# Altium footprint library Face_PWR1V0.PcbLib: 20 footprints (part 1 of 2)
Each footprint in its own frame and in the unit in brackets; x right, y up, seen from the top. Pads: shape width x height; smd on the part's side, far side on the other; paste and mask are expansions set on the pad; w line width, h text height; cw(c..) or ccw(c..) is an arc to the next point about the centre after c.
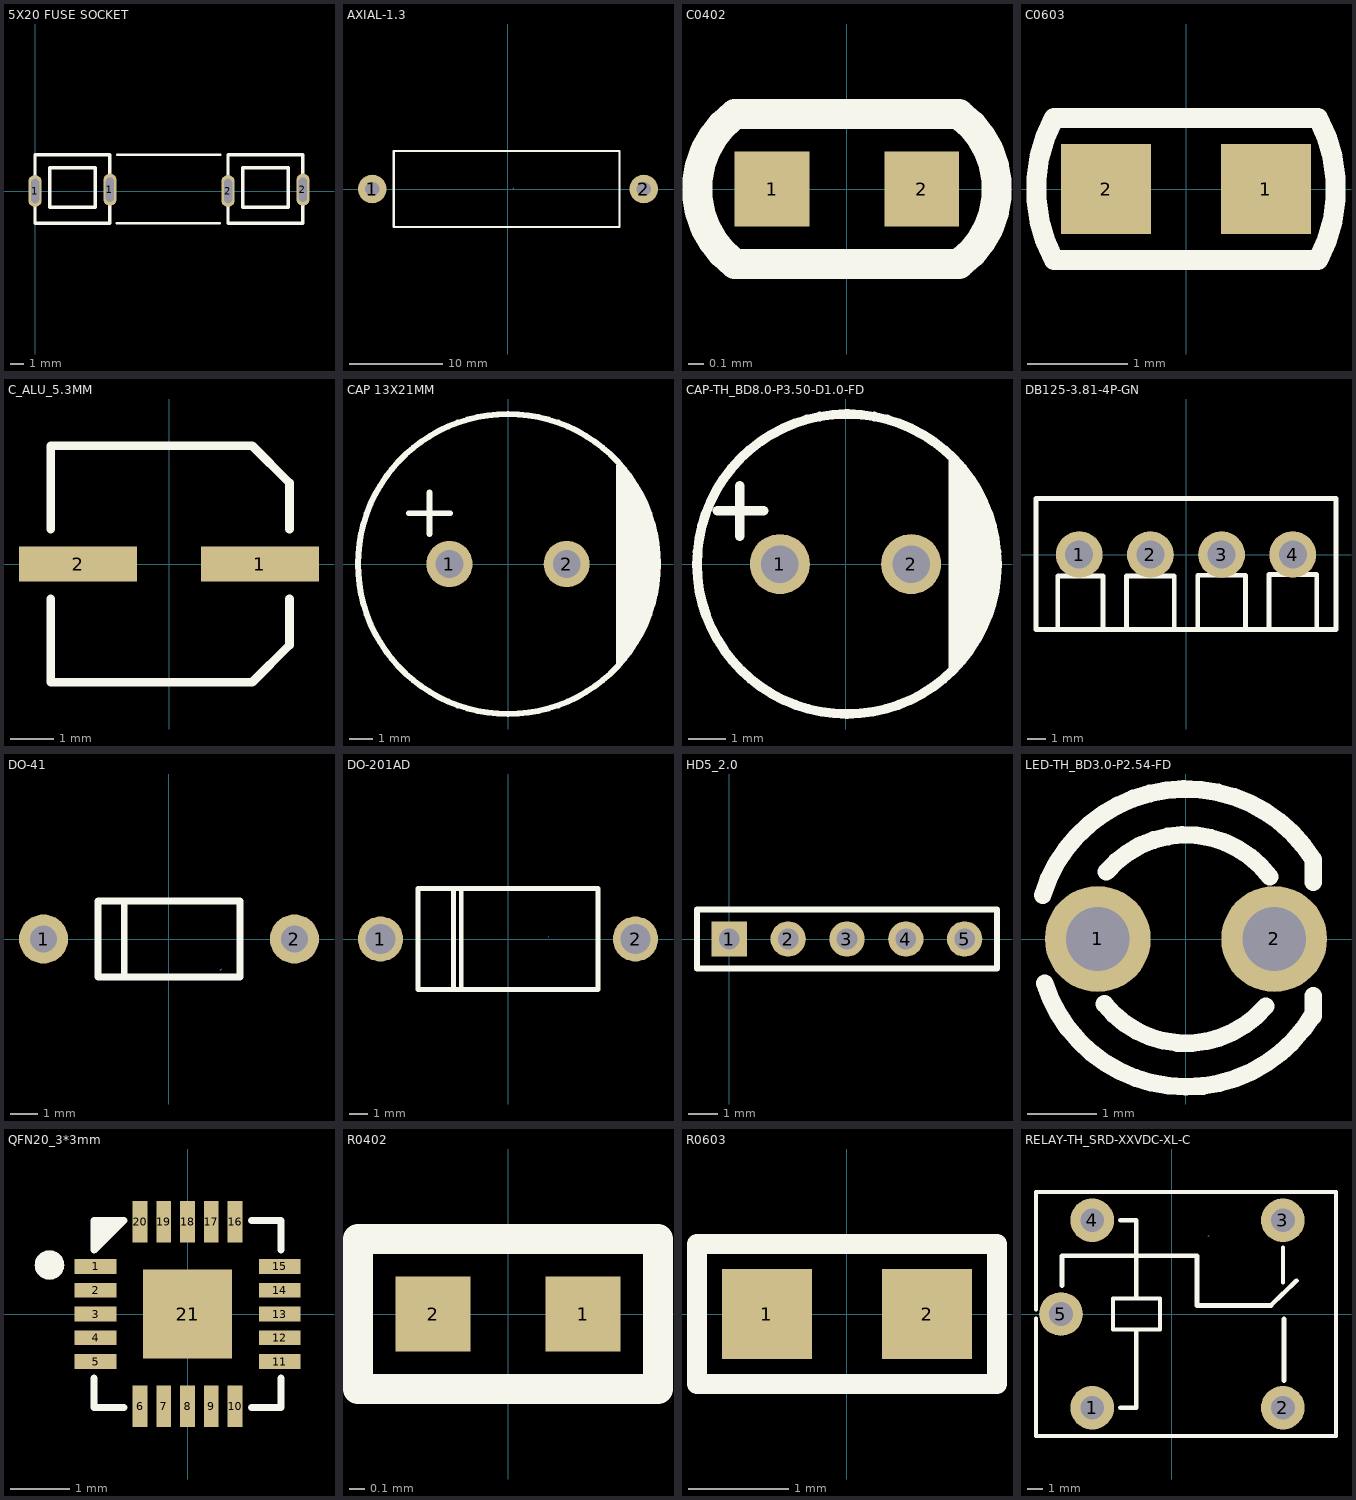
[diagram p0: the footprints below, top view; thin cyan lines are the x and y axes]

## 5X20 FUSE SOCKET [mm]
pads (4):
  oval 1x2.399 hole 0.6 slot 1.8 at 90 deg copper offset -0.001,0.001: 1(0,0) 2(14.423,0)
  oval 1x2.399 hole 0.6 slot 1.799 at 90 deg: 1(5.599,0.1) 2(20.022,0.1)
Top Overlay:
  lines w0.2: 6.1,-2.4 13.8,-2.4 ; 6.15,2.7 13.85,2.7
  lines w0.254: 0,-2.4 5.577,-2.4 5.577,2.7 0,2.7 0,-2.4 ; 1.1,1.749 1.101,-1.2 4.501,-1.2 4.501,1.749 1.1,1.749 ; 14.423,-2.4 14.423,2.7 20,2.7 20,-2.4 14.423,-2.4 ; 15.524,-1.2 18.924,-1.2 18.924,1.749 15.523,1.749 15.524,-1.2
Mechanical 15:
  lines w0.003: 19.038,0.251 19.089,0.302 ; 4.615,0.251 4.666,0.302 4.615,0.251
3D body "ALSRobot-Fuse.STEP": height 9.59, standoff -3.31, extent -0.588,-3.065 20.691,3.126

## AXIAL-1.3 [mil]
pads (2):
  round 120 hole 59.06: 1(-571.26,0) 2(571.26,0)
Top Overlay:
  lines w10: -480.55,159.29 -480.55,-160 469.45,-160 469.45,160 -480.55,160
Mechanical 15:
  lines w0.1: 21.5,4 23.5,6
3D body "User Library-RES-5W.STEP": height 354.72, standoff -118.11, extent -568.89,-118.1 562.6,118.11

## C0402 [mm]
height 1.1
pads (2):
  rect 0.5x0.5 smd paste+0 mask+0.102: 1(-0.5,0) 2(0.5,0)
Top Overlay:
  lines w0.2: -0.75,-0.5 cw(c-0.38,0) -0.75,0.5 0.75,0.5 cw(c0.381,0) 0.75,-0.5 -0.75,-0.5
3D body "SW3dPS-0402 SMD Capacitor.STEP": height 0.2, standoff 0, extent -0.5,-0.3 0.5,0.3

## C0603 [mm]
pads (2):
  rect 0.9x0.9 smd mask+0.05: 1(0.8,0) 2(-0.8,0)
Top Overlay:
  lines w0.2: -1.321,0.71 ccw(c0,0) -1.321,-0.711 1.321,-0.711 ; -1.321,0.711 1.321,0.711 cw(c0,0) 1.321,-0.71
3D body "SW3dPS-0603 SMD Capacitor.STEP": height 0.3, standoff 0, extent -0.8,-0.4 0.8,0.4

## C_ALU_5.3MM [mm]
height 6.3
pads (2):
  rect 2.7x0.8 smd mask+0.05: 1(2.075,0) 2(-2.075,0)
Top Overlay:
  lines w0.2: -2.7,-0.8 -2.7,-2.7 1.9,-2.7 2.75,-1.85 2.75,-0.8 ; -2.7,0.8 -2.7,2.7 1.9,2.7 2.75,1.85 2.75,0.8
3D body "User Library-ALU-C.STEP": height 5.41, standoff 0, extent -2.925,-2.65 2.975,2.65

## CAP 13X21MM [mm]
pads (2):
  round 2 hole 1.2: 1(-2.54,0) 2(2.54,0)
Top Overlay:
  circle w0.254: c-0.001,0 r6.5
  region: 4.7,4.3 4.7,-4.5 5.8,-3 6.3,-1.7 6.4,-0.5 6.3,1.5 5.7,3.2
  lines w0.254: -4.301,2.2 -2.501,2.2 ; -3.401,1.3 -3.401,3.1
Mechanical 15:
  lines w0.003: 1.688,0.102 1.739,0.152
3D body "User Library-CAPPR500-1250x2000.STEP": height 20, standoff -7.5, extent -6.3,-6.2 6.2,6.3

## CAP-TH_BD8.0-P3.50-D1.0-FD [mm]
pads (2):
  round 1.6 hole 1: 1(-1.75,0) 2(1.75,0)
Top Overlay:
  region: 2.75,-3 2.941,-2.8 3.268,-2.355 3.536,-1.872 3.741,-1.359 3.88,-0.824 3.95,-0.276 3.95,0.276 3.88,0.824 3.741,1.359 3.536,1.872 3.268,2.355 2.941,2.8 2.75,3
  lines w0.254: -3.426,1.422 -2.182,1.422 ; -2.817,0.737 -2.817,2.083 ; 0.003,4 ccw(c0.038,0.001) 0.074,4
Mechanical 15:
  lines w0.003: 1.645,0.102 1.695,0.153
3D body "User Library-CE_R150_D320_H570.STEP": height 14.4, standoff -2.9, extent -4.05,-4.1 4.15,4.1

## DB125-3.81-4P-GN [mm]
pads (4):
  round 2.5 hole 1.5: 1(-5.715,0) 2(-1.905,0) 3(1.905,0) 4(5.715,0)
Top Overlay:
  lines w0.254: -8.025,3 8.025,3 8.025,-4.008 -4.445,-4.008 ; -8.024,2.992 -8.024,-4.008 -6.858,-4.008 ; -3.187,-4.008 -3.187,-1.143 -0.635,-1.143 -0.635,-4.008 ; 0.629,-3.973 0.629,-1.107 3.181,-1.107 3.181,-3.973 ; 4.445,-3.937 4.445,-1.072 6.997,-1.072 6.997,-3.937 ; -6.858,-4.008 -6.858,-1.143 -4.445,-1.143 -4.445,-4.008 ; -6.858,-4.008 -4.445,-4.008
Mechanical 15:
  lines w0.003: 1.308,-0.266 1.359,-0.215
3D body "terminal_blocks_a-tb350-th02.stp": height 10.2, standoff 0, extent -7.62,-5.3 0.52,4.3
3D body "terminal_blocks_a-tb350-th02.stp": height 10.2, standoff 0, extent -0.62,-5.3 7.52,4.3

## DO-41 [mm]
pads (2):
  round 1.8 hole 1: 1(-4.6,0) 2(4.6,0)
Top Overlay:
  lines w0.254: -1.641,-1.4 -1.641,1.4 ; -2.6,-1.4 2.6,-1.4 2.6,1.4 -2.6,1.4 -2.6,-1.4
Mechanical 15:
  lines w0.003: 1.88,-1.143 1.93,-1.093
3D body "User Library-DO-41-2.STEP": height 3.72, standoff -1.6, extent -5.512,-1.35 5.512,1.37

## DO-201AD [mm]
pads (2):
  round 2.4 hole 1.6: 1(-6.8,0) 2(6.8,0)
Top Overlay:
  lines w0.254: -2.902,-2.7 -2.902,2.7 ; -2.496,-2.54 -2.496,2.7 ; -4.8,-2.7 4.8,-2.7 4.8,2.7 -4.8,2.7 -4.8,-2.7
Mechanical 15:
  lines w0.003: 2.134,0.102 2.184,0.152
3D body "User Library-Diode 1N5408 (pcb).STEP": height 6.51, standoff -1.85, extent -6.95,-2.522 6.95,2.5

## HD5_2.0 [mm]
height 1.1
pads (5):
  rect 1.2x1.2 hole 0.7: 1(0,0)
  round 1.2 hole 0.7: 2(2,0) 3(4,0) 4(6,0) 5(8,0)
Top Overlay:
  lines w0.2: -1.1,-1 -1.1,1 9.1,1 9.1,-1 -1.1,-1

## LED-TH_BD3.0-P2.54-FD [mil]
pads (2):
  round 60 hole 36: 1(-50,0) 2(50,0)
Top Overlay:
  lines w10: -81.26,24.92 cw(c0,0) 72.07,45.07 72.07,32.26 ; -80,-25 ccw(c0,0) 71.97,-42.96 ; -46.19,-36.85 ccw(c0,0) 45.22,-38.03 ; -45.12,38.07 cw(c0,0) 47.36,35.24 ; 72.07,-43.62 72.07,-32.26
Mechanical 15:
  lines w0.1: 50.87,4.59 52.87,6.59
3D body "everlight-5MM-LED-RG.STEP": height 354.33, standoff -141.73, extent -112.2,-112.2 107.88,112.21

## QFN20_3*3mm [mm]
height 1.1
pads (22):
  rect 0.7x0.25 smd mask+0.05: 1(-1.55,0.8) 2(-1.55,0.4) 3(-1.55,0) 4(-1.55,-0.4) 5(-1.55,-0.8) 11(1.55,-0.8) 12(1.55,-0.4) 13(1.55,0) 14(1.55,0.4) 15(1.55,0.8)
  rect 0.25x0.7 smd mask+0.05: 6(-0.8,-1.55) 7(-0.4,-1.55) 8(0,-1.55) 9(0.4,-1.55) 10(0.8,-1.55) 16(0.8,1.55) 17(0.4,1.55) 18(0,1.55) 19(-0.4,1.55) 20(-0.8,1.55)
  rect 1.5x1.5 smd mask+0.05: 21(0,0)
  round 0.5 on Top Overlay: ""(-2.325,0.825)
Top Overlay:
  lines w0.12: -1.575,-1.075 -1.575,-1.575 -1.075,-1.575 ; -1.375,1.575 -1.55,1.4 -1.55,1.25 -1.225,1.575 -1.075,1.575 ; 1.075,-1.575 1.575,-1.575 1.575,-1.075 ; 1.075,1.575 1.575,1.575 1.575,1.075 ; -1.075,1.575 -1.575,1.075 -1.575,1.575 -1.075,1.575
Top Solder:
  region: -0.976,1.951 -0.976,1.151 0.974,1.151 0.974,1.951
  region: 1.95,0.975 1.15,0.975 1.15,-0.975 1.95,-0.975
  region: 0.975,-1.95 0.975,-1.151 -0.975,-1.151 -0.975,-1.95
  rectangle: -1.95,-0.975 -1.15,0.975
3D body "User Library-QFN-20-2.STEP": height 0.75, standoff 0, extent -1.51,-1.51 1.51,1.51

## R0402 [mm]
height 2.8
pads (2):
  rect 0.5x0.5 smd: 1(0.5,0) 2(-0.5,0)
Top Overlay:
  lines w0.2: -1,-0.5 1,-0.5 1,0.5 -1,0.5 -1,-0.5
3D body "User Library-R_0402.STEP": height 0.35, standoff 0, extent -0.5,-0.25 0.5,0.25

## R0603 [mm]
height 1.1
pads (2):
  rect 0.9x0.9 smd: 1(-0.8,0) 2(0.8,0)
Top Overlay:
  lines w0.2: -1.5,-0.7 -1.5,0.7 1.5,0.7 1.5,-0.7 -1.5,-0.7
3D body "User Library-RES_1609-0603.STEP": height 0.56, standoff 0, extent -0.85,-0.4 0.85,0.4

## RELAY-TH_SRD-XXVDC-XL-C [mil]
pads (5):
  round 110 hole 60: 1(-200.79,-236.22) 2(279.52,-236.2) 3(279.53,236.2) 4(-200.79,236.22) 5(-279.53,0)
Top Overlay:
  lines w10: -342.49,-11.6 -342.49,-307.09 413.43,-307.09 ; -342.49,11.6 -342.49,307.09 413.42,307.09 413.43,-307.09 ; 279.5,79.5 279.5,167.2 ; -148.62,-39.37 -30.51,-39.37 -30.51,39.37 -148.62,39.37 -148.62,-39.37
  lines w11.81: -276.84,70.87 -276.84,146.74 63.16,146.74 63.16,21.65 249.74,21.65 313.79,84.05 ; -130.31,-236.22 -90.24,-236.22 -90.24,-41.39 ; -130.31,236.22 -90.24,236.22 -90.24,41.37 ; 282.22,-167.6 282.22,-12.3
Mechanical 15:
  lines w0.1: 91.97,196.38 93.97,198.38
3D body "nff-NF8 3D 1NO PDF.STEP": height 602.36, standoff -153.54, extent -338.58,-305.12 409.45,305.12